# EAGLE library part MOLEX_54550-0871 (library Molex - 54550-0871)
MOLX-54550-0871
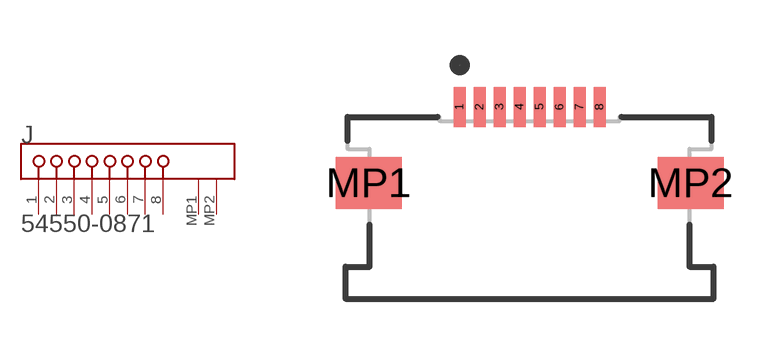
[diagram p0: symbol with the pads of MOLEX_54550-0871_0; footprint MOLEX_54550-0871_0]

Designator prefix J

## MOLEX_54550-0871MOLEX_54550-0871_0_0 (CIIVA_IDS: 3405314; CIRCUITS_LOADED: 8; COMPONENT_LINK_1_DESCRIPTION: Manufacturer URL; COMPONENT_LINK_1_URL: http://www.molex.com/molex/index.jsp; COMPONENT_LINK_3_DESCRIPTION: Package Specification; COMPONENT_LINK_3_URL: http://www.molex.com/pdm_docs/sd/545500871_sd.pdf; CONTACT_POSITION: Top; CURRENT_MAX_PER_CONTACT: 0.5A; DATASHEET: http://www.molex.com/webdocs/datasheets/pdf/en-us/0545500871_FFC_FPC_CONNECTORS.pdf; DURABILITY_MATING_CYCLES_MAX: 20; ENTRY_ANGLE: 90degrees Angle; FOOTPRINT_VARIANT_NAME_0: Manufacturer Recommended; IMPORTED: yes; IMPORTED_FROM: vault; IMPORT_TS: 1521843996; MATED_HEIGHT: 1.20mm; MATERIAL___METAL: Phosphor Bronze; MATERIAL___PLATING_MATING: Gold; MATERIAL___PLATING_TERMINATION: Tin; MF: Molex; MOUNTING_TECHNOLOGY: Surface Mount; MPN: 54550-0871; NUMBER_OF_ROWS: 1; ORIENTATION: Right Angle; PACKAGE: 54550-0871; PACKAGE_DESCRIPTION: 8-Lead FPC Connector, Pitch 0.5 mm; PACKAGE_VERSION: Rev. M, 12/2009; PACKING: Tape and Reel; PCB_LOCATOR: No; PCB_RETENTION: Yes; PITCH___MATING_INTERFACE: 0.50mm; POLARIZED_TO_PCB: Yes; PREFIX: J; RELEASE_DATE: 1411372735; ROHS: Yes; STACKABLE: No; VAULT_GUID: 4F5E3AE4-AE0A-4DC1-8CF3-4F404F9FC512; VAULT_REVISION: F633CFB0-ED6A-4DFE-8830-DF58A16BDF03; VOLTAGE_MAX: 50V)  [MOLEX_54550-0871_0]
1  1  pas
2  2  pas
3  3  pas
4  4  pas
5  5  pas
6  6  pas
7  7  pas
8  8  pas
MP1  MP1  pas
MP2  MP2  pas

## Footprint MOLEX_54550-0871_0 (pad centres in mm)
MOLX-54550-0871
smd 0.3 x 1: 1 -1.75,0.95; 2 -1.25,0.95; 3 -0.75,0.95; 4 -0.25,0.95; 5 0.25,0.95; 6 0.75,0.95; 7 1.25,0.95; 8 1.75,0.95
smd 1.65 x 1.3: MP1 -4.025,-0.95; MP2 4.025,-0.95